# Altium schematic symbol library BatteryPads.SchLib: 1 symbol
Pins are listed as number, name and electrical type; pins without a type are passive.

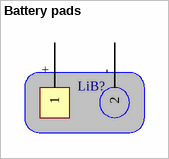
[diagram p0: symbol Battery pads]

## Battery pads
designator LiB?
Name: Pads
footprint BatteryPads
pins: + 1, - 2